# EAGLE library part XF2M-2415-1A (library Deegou_Connector)
Omron XF2M Series 0.5mm Pitch 24 Way 1 Row Right Angle SMT Female FPC Connector Locking Mechanism, Gold Plated Contacts Source: Datasheet <http://docs-europe.electrocomponents.com/webdocs/0fd2/0900766b80fd28a0.pdf>
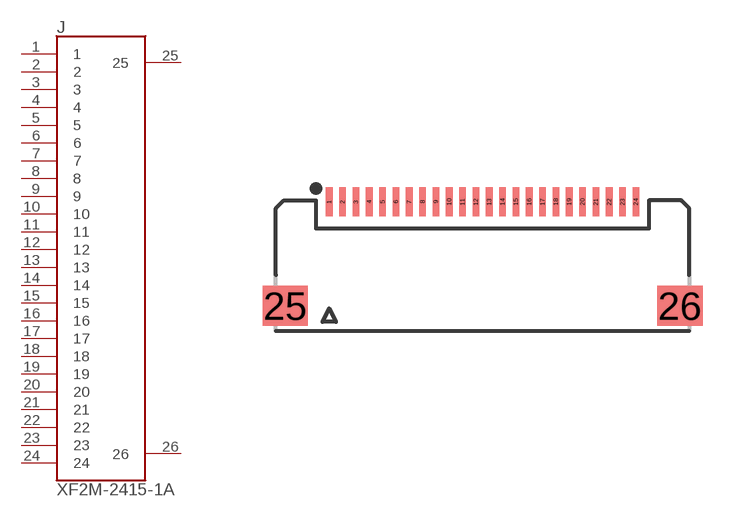
[diagram p37: symbol with the pads of XF2M-2415-1A; footprint XF2M-2415-1A]

Designator prefix J

## XF2M-2415-1A (ARROW_PART_NUMBER: xf2m-2415-1a; ARROW_PRICE-STOCK: http://uk.rs-online.com/web/p/products/7315794P; DESCRIPTION: Omron XF2M Series 0.5mm Pitch 24 Way 1 Row Right Angle SMT Female FPC Connector Locking Mechanism, Gold Plated Contacts; HEIGHT: mm; MANUFACTURER_NAME: Omron Electronics; MANUFACTURER_PART_NUMBER: xf2m-2415-1a; RS_PART_NUMBER: 7315794P; RS_PRICE-STOCK: http://uk.rs-online.com/web/p/products/7315794P)  [XF2M-2415-1A]
1  1
2  2
3  3
4  4
5  5
6  6
7  7
8  8
9  9
10  10
11  11
12  12
13  13
14  14
15  15
16  16
17  17
18  18
19  19
20  20
21  21
22  22
23  23
24  24
25  25
26  26

## Footprint XF2M-2415-1A (pad centres in mm)
XF2M-2415-1A
smd 0.25 x 1.1: 1 -5.75,0; 2 -5.25,0; 3 -4.75,0; 4 -4.25,0; 5 -3.75,0; 6 -3.25,0; 7 -2.75,0; 8 -2.25,0; 9 -1.75,0; 10 -1.25,0; 11 -0.75,0; 12 -0.25,0; 13 0.25,0; 14 0.75,0; 15 1.25,0; 16 1.75,0; 17 2.25,0; 18 2.75,0; 19 3.25,0; 20 3.75,0; 21 4.25,0; 22 4.75,0; 23 5.25,0; 24 5.75,0
smd 1.7 x 1.5: 25 -7.4,-3.9; 26 7.4,-3.9